# EAGLE library part TCAN330DR (library ovms_lilygo)
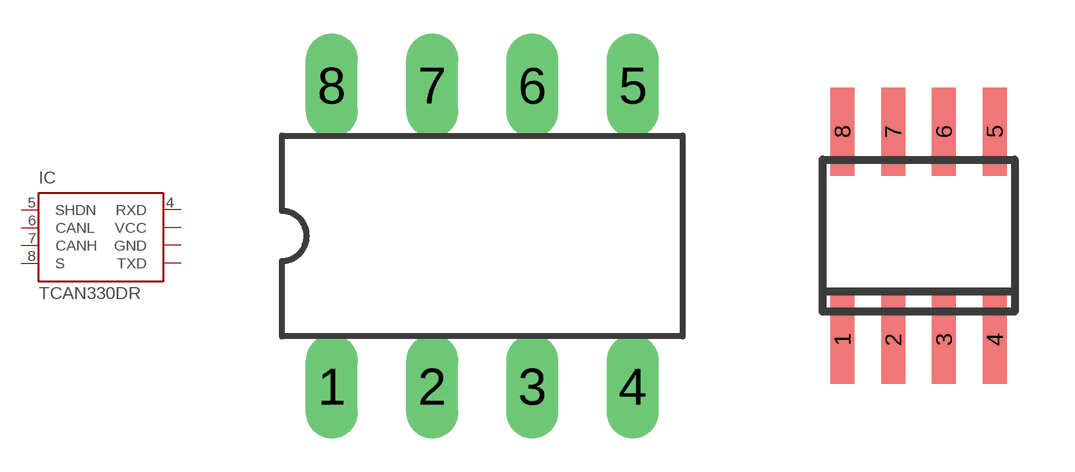
[diagram p8: symbol with the pads of DIL8; footprints DIL8, SO-08]

Designator prefix IC

## TCAN330DRD  [DIL8]
1  TXD
2  GND  pwr
3  VCC  pwr
4  RXD  in
5  SHDN  in
6  CANL  in
7  CANH  in
8  S  in

## TCAN330DRS  [SO-08]
Pads as for DIL8

## Footprint DIL8 (pad centres in mm)
Dual In Line package type P
drill 0.813 long: 1 -3.81,-3.81; 2 -1.27,-3.81; 3 1.27,-3.81; 4 3.81,-3.81; 5 3.81,3.81; 6 1.27,3.81; 7 -1.27,3.81; 8 -3.81,3.81

## Footprint SO-08 (pad centres in mm)
Small Outline Narrow Plastic Gull Wing 150-mil body, package type SN
smd 0.6 x 2.2: 1 -1.905,-2.6; 2 -0.635,-2.6; 3 0.635,-2.6; 4 1.905,-2.6; 5 1.905,2.6; 6 0.635,2.6; 7 -0.635,2.6; 8 -1.905,2.6